# Altium footprint library Mousebite.PcbLib: 1 footprints
Each footprint in its own frame and in the unit in brackets; x right, y up, seen from the top. Pads: shape width x height; smd on the part's side, far side on the other; paste and mask are expansions set on the pad; w line width, h text height; cw(c..) or ccw(c..) is an arc to the next point about the centre after c.
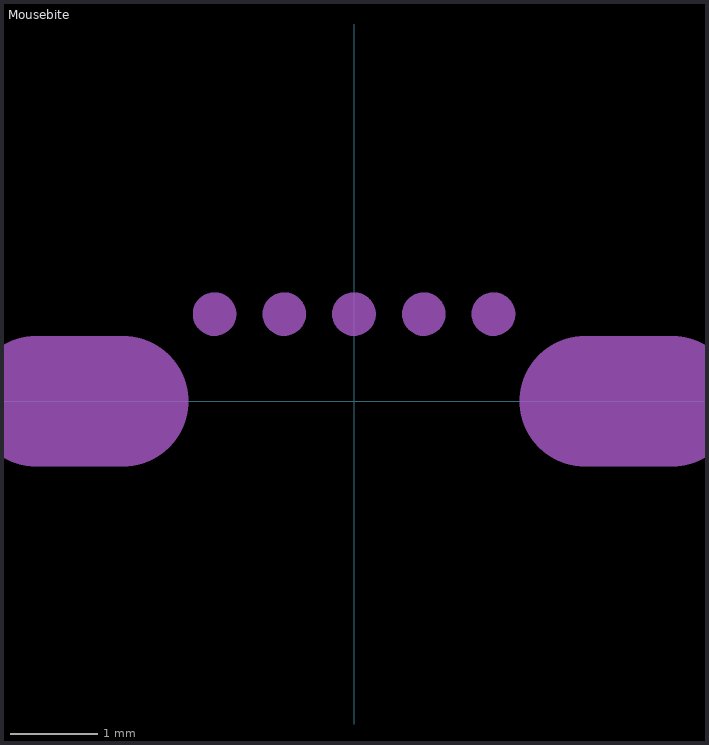
[diagram p0: the footprint, top view; thin cyan lines are the x and y axes]

## Mousebite [mm] "0.5 mm hole, 0.3 mm spacing, 5x, 1.5 mm diameter"
Route Tool Path:
  circle w0.25: c-1.6,1 r0.125
  circle w0.25: c-0.8,1 r0.125
  circle w0.25: c0,1 r0.125
  circle w0.25: c0.8,1 r0.125
  circle w0.25: c1.6,1 r0.125
  lines w1.5: -3.65,0 -2.65,0 ; 2.65,0 3.65,0
Manufacturing Notes:
  lines w0.1: -3.15,0 -2.65,0 ; -2.65,-0.5 -2.65,0 ; -2.65,0.5 -2.65,0 ; -2.15,0 -2.65,0 ; 2.15,0 2.65,0 ; 2.65,-0.5 2.65,0 ; 2.65,0.5 2.65,0 ; 3.15,0 2.65,0